# Altium footprint library QUTMS_OpAmpLibrary.PcbLib: 4 footprints
Each footprint in its own frame and in the unit in brackets; x right, y up, seen from the top. Pads: shape width x height; smd on the part's side, far side on the other; paste and mask are expansions set on the pad; w line width, h text height; cw(c..) or ccw(c..) is an arc to the next point about the centre after c.
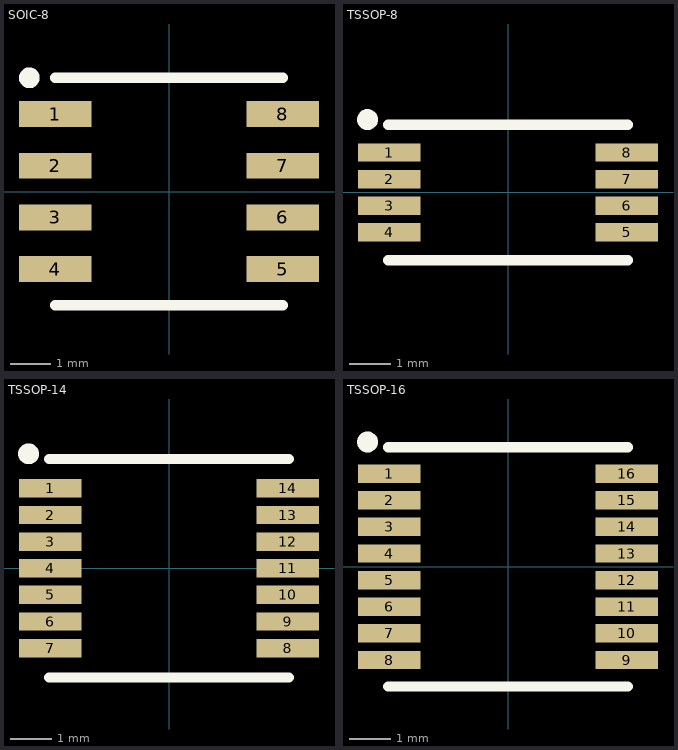
[diagram p0: the footprints below, top view; thin cyan lines are the x and y axes]

## SOIC-8 [mil]
pads (8):
  rect 70x25 smd: 1(-110,75) 2(-110,25) 3(-110,-25) 4(-110,-75) 5(110,-75) 6(110,-25) 7(110,25) 8(110,75)
Top Overlay:
  circle w10: c-135,110 r5
  lines w10: -110,-110 110,-110 ; -110,110 110,110
3D body "soic8_p1-27_l5-0_w4-0.stp": height 74.96, standoff 0.16, extent -122.04,-98.43 122.05,98.43

## TSSOP-8 [mm]
pads (8):
  rect 1.524x0.45 smd: 1(-2.9,0.975) 2(-2.9,0.325) 3(-2.9,-0.325) 4(-2.9,-0.975) 5(2.9,-0.975) 6(2.9,-0.325) 7(2.9,0.325) 8(2.9,0.975)
Top Overlay:
  circle w0.254: c-3.429,1.778 r0.127
  lines w0.254: -2.921,-1.651 2.921,-1.651 ; -2.921,1.651 2.921,1.651
3D body "TSSOP-08.stp": height 1.11, standoff 0.01, extent -3.215,-1.249 3.216,1.249

## TSSOP-14 [mm]
pads (14):
  rect 1.524x0.45 smd: 1(-2.9,1.95) 2(-2.9,1.3) 3(-2.9,0.65) 4(-2.9,0) 5(-2.9,-0.65) 6(-2.9,-1.3) 7(-2.9,-1.95) 8(2.9,-1.95) 9(2.9,-1.3) 10(2.9,-0.65) 11(2.9,0) 12(2.9,0.65) 13(2.9,1.3) 14(2.9,1.95)
Top Overlay:
  circle w0.254: c-3.429,2.794 r0.127
  lines w0.254: -2.921,-2.667 2.921,-2.667 ; -2.921,2.667 2.921,2.667
3D body "TSSOP-14.stp": height 1.11, standoff 0.01, extent -3.215,-2.225 3.216,2.225

## TSSOP-16 [mm]
pads (16):
  rect 1.524x0.45 smd: 1(-2.9,2.275) 2(-2.9,1.625) 3(-2.9,0.975) 4(-2.9,0.325) 5(-2.9,-0.325) 6(-2.9,-0.975) 7(-2.9,-1.625) 8(-2.9,-2.275) 9(2.9,-2.275) 10(2.9,-1.625) 11(2.9,-0.975) 12(2.9,-0.325) 13(2.9,0.325) 14(2.9,0.975) 15(2.9,1.625) 16(2.9,2.275)
Top Overlay:
  circle w0.254: c-3.429,3.048 r0.127
  lines w0.254: -2.921,-2.921 2.921,-2.921 ; -2.921,2.921 2.921,2.921
3D body "TSSOP-16.stp": height 1.11, standoff 0.01, extent -3.215,-2.549 3.216,2.549